# Altium schematic symbol library ToradexMainBoard-V0I1.SCHLIB: 303 symbols (part 3 of 14)
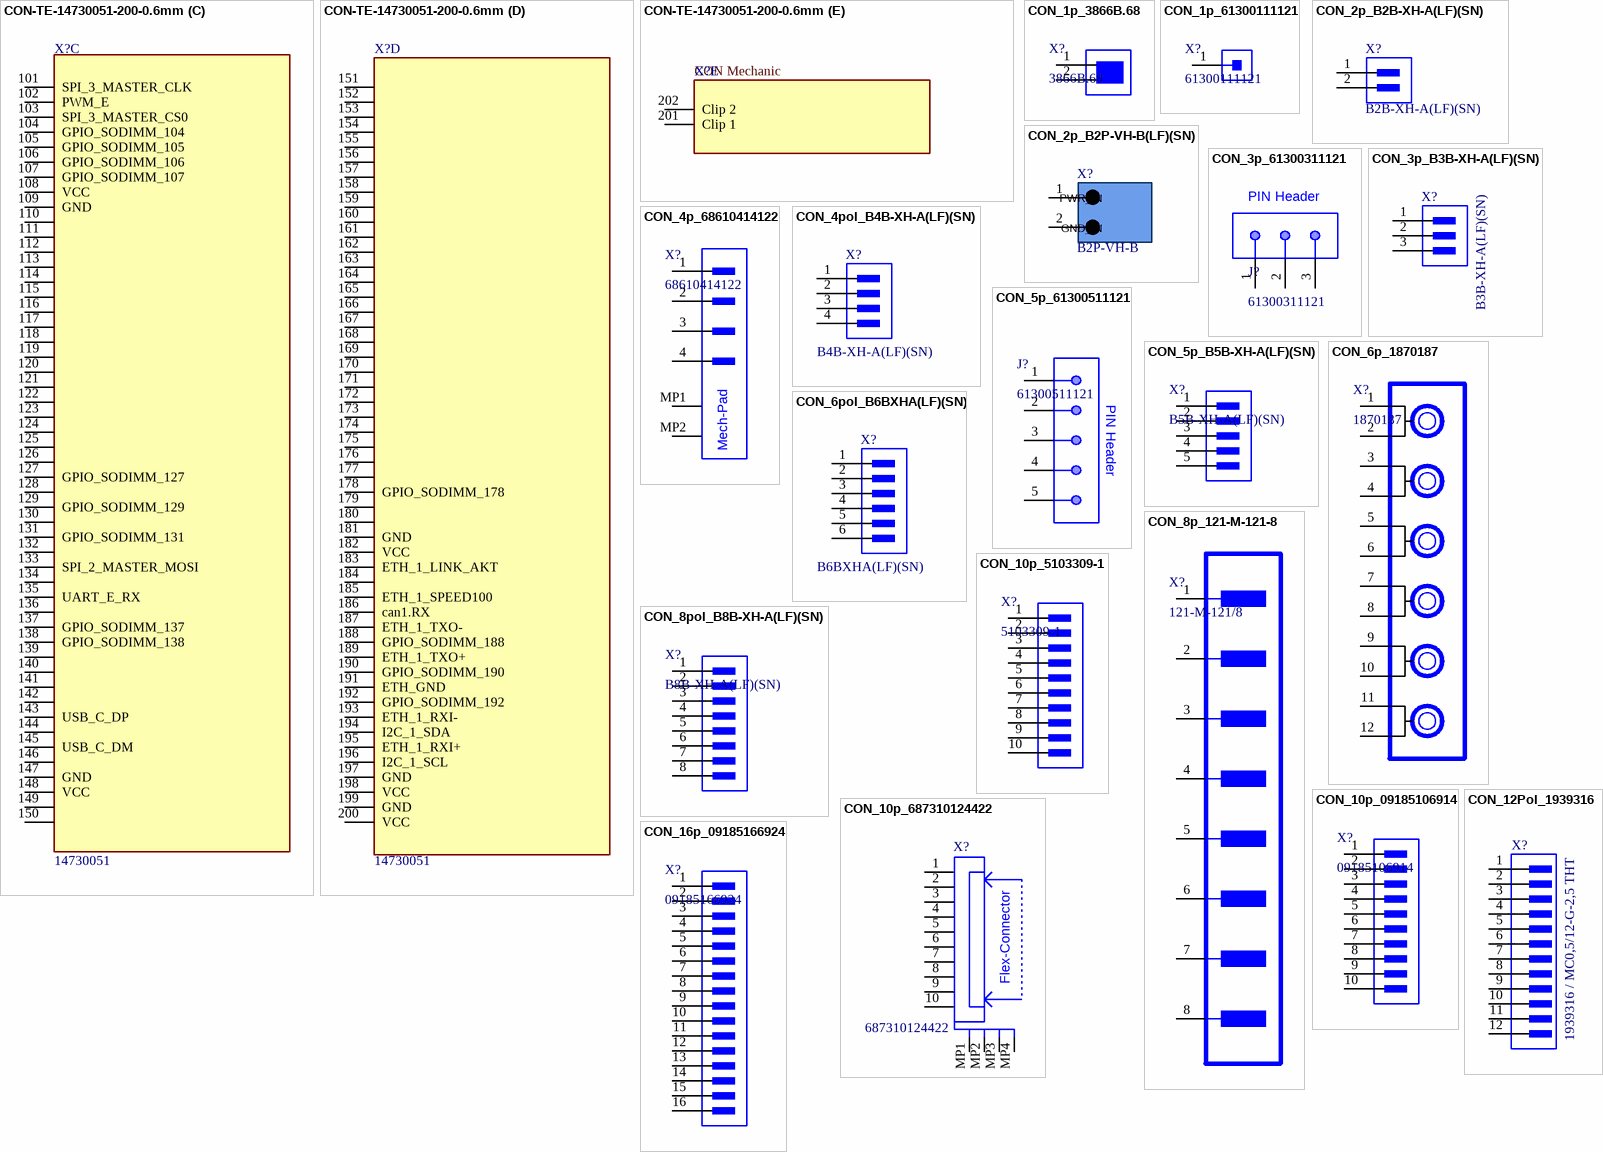
[diagram p17: symbols CON-TE-14730051-200-0.6mm to CON_16p_09185166924]

## CON_5p_B5B-XH-A(LF)(SN)
designator X?, comment B5B-XH-A(LF)(SN)
Conn Shrouded Header HDR 5 POS 2.5mm Solder ST Thru-Hole Box; Manufacturer: JST; Contact Resistance: 20mR; Current Rating: 3A; Number of Positions: 5; Max Voltage Rating (AC): 250V; Connector Type: Male Pin; Insulation Resistance: 1GR; Gender: Male; Wire/Cable Gauge: 22AWG; Supplier 1: Farnell; Manufacturer Part Number: B5B-XH-A(LF)(SN); RoHS: Yes; Category: Headers and Wire Housings; Stock 1: 68330; Pricing 1: 100=0,14500, 500=0,12300, 1000=0,10000, 2500=0,09460, 5000=0,08910, 10000=0,08060 (EUR); Mount: Through Hole; Contact Material: Brass; Color: Natural; Contact Plating: Tin,Lead,Copper; Housing Color: White; Housing Material: Polyamide; Min Operating Temperature: -25°C; Max Operating Temperature: 85°C; Number of Rows: 1; Packaging: Bulk; Max Current Rating: 3A; Termination: Press-Fit; Fastening Type: Detent; Orientation: Straight; Voltage Rating (AC): 250V; Voltage Rating: 250V; Number of Contacts: 5; Length: 14.9mm; Pitch: 2.5mm; Depth: 5.75mm; Lead Pitch: 2.5mm; Lead Free: Lead Free; REACH SVHC: No SVHC; ComponentLink1URL: https://datasheet.ciiva.com/11746/0900766b8082f55f-11746654.pdf?src-supplier=RSComponents; ComponentLink1Description: https://datasheet.ciiva.com/11746/0900766b8082f55f-11746654.pdf?src-supplier=RSComponents; ComponentLink2URL: https://datasheet.ciiva.com/26894/getdatasheetpartid-455618-26894798.pdf?src-supplier=Verical; ComponentLink2Description: https://datasheet.ciiva.com/26894/getdatasheetpartid-455618-26894798.pdf?src-supplier=Verical; ComponentLink3URL: https://datasheet.ciiva.com/26894/getdatasheetpartid-640991-26894479.pdf?src-supplier=Verical; ComponentLink3Description: https://datasheet.ciiva.com/26894/getdatasheetpartid-640991-26894479.pdf?src-supplier=Verical; ComponentLink4URL: https://datasheet.ciiva.com/724/exh-724390.pdf?src-supplier=Digi-Key; ComponentLink4Description: https://datasheet.ciiva.com/724/exh-724390.pdf?src-supplier=Digi-Key; ComponentLink5URL: https://datasheet.ciiva.com/20207/523653-20207174.pdf?src-supplier=Rapid+Electronics; ComponentLink5Description: https://datasheet.ciiva.com/20207/523653-20207174.pdf?src-supplier=Rapid+Electronics; ComponentLink6URL: https://datasheet.ciiva.com/8052/1684882-8052063.pdf?src-supplier=Element14; ComponentLink6Description: https://datasheet.ciiva.com/8052/1684882-8052063.pdf?src-supplier=Element14; Supplier Part Number 1: 1516281
footprint CON_ B5B-XH-A (LF)(SN)
pins: 1, 2, 3, 4, 5

## CON_6p_1870187
designator X?, comment 1870187
PCB Terminal Push-In 3.81mm 16AWG 160V 12A 6 Position Combicon Control Series; Manufacturer: Phoenix Contact; Number of Levels: 1; Number of Positions Per Level: 6; Current: 6A; Voltage: 300V; Wire Gauge (Max): 26AWG; Pitch: 0.15inch; Supplier 1: Mouser; Manufacturer Part Number: 1870187; RoHS: Yes; Category: Terminal Blocks; Stock 1: 30; Pricing 1: 1=7,85000, 10=7,64000, 50=7,14000, 100=6,56000, 1000=5,42000, 10000=5,42000, 1=6,65000, 10=6,47000, 25=6,31000, 50=6,05000, 100=5,56000, 250=5,13000, 500=4,90000, 1000=4,59000, 2500=4,35000 (USD); Mount: Through Hole; Weight: 5lb; Housing Color: Green; Package Quantity: 50; Termination: Screwless; Series: COMBICON FFKDSA; Packaging: Bulk; Current Rating: 12A; Voltage Rating: 160V; Number of Positions: 6; Wire Gauge (Min): 16AWG; RoHS Compliant: Yes; ComponentLink1URL: http://components.arrow.com/part/dataview/44192676S76631N1555?src-supplier=Arrow+Electronics; ComponentLink1Description: http://components.arrow.com/part/dataview/44192676S76631N1555?src-supplier=Arrow+Electronics; ComponentLink2URL: https://media.digikey.com/pdf/Data%20Sheets/Phoenix%20Contact%20PDFs/1870187.pdf?src-supplier=Digi-Key; ComponentLink2Description: https://media.digikey.com/pdf/Data%20Sheets/Phoenix%20Contact%20PDFs/1870187.pdf?src-supplier=Digi-Key; ComponentLink3URL: http://www.phoenixcontact.com/us/products/1870187/pdf?src-supplier=Mouser; ComponentLink3Description: http://www.phoenixcontact.com/us/products/1870187/pdf?src-supplier=Mouser; Supplier Part Number 1: 651-1870187
footprint CON_6p_1870187
pins: 1, 2, 3, 4, 5, 6, 7, 8, 9, 10, 11, 12

## CON_6pol_B6BXHA(LF)(SN)
designator X?, comment B6BXHA(LF)(SN)
CONN HEADER VERT 6POS 2.5MM; Manufacturer: JST; Current Rating: 3A; Number of Positions: 6; Contact Resistance: 20mR; Max Voltage Rating (AC): 250V; Connector Type: Male Pin; Insulation Resistance: 1GR; Wire/Cable Gauge: 22AWG; Supplier 1: Digi-Key; Manufacturer Part Number: B6BXHA(LF)(SN); RoHS: Yes; Category: FFC / FPC; Mount: Through Hole; Contact Plating: Tin,Lead,Copper; Contact Material: Brass; Color: Natural; Housing Color: White; Housing Material: Polyamide; Min Operating Temperature: -25°C; Max Operating Temperature: 85°C; Termination: Press-Fit; Number of Rows: 1; Max Current Rating: 3A; Packaging: Bulk; Orientation: Straight; Voltage Rating (AC): 250V; Voltage Rating: 250V; Number of Contacts: 6; Max Voltage Rating (DC): 250V; Package Quantity: 500; Length: 17.4mm; Pitch: 2.5mm; Depth: 5.75mm; Lead Pitch: 2.5mm; Lead Free: Lead Free; REACH SVHC: No SVHC; ComponentLink1URL: https://datasheet.ciiva.com/26894/getdatasheetpartid-424647-26894806.pdf?src-supplier=Verical; ComponentLink1Description: https://datasheet.ciiva.com/26894/getdatasheetpartid-424647-26894806.pdf?src-supplier=Verical; ComponentLink2URL: https://datasheet.ciiva.com/26894/getdatasheetpartid-641012-26894489.pdf?src-supplier=Verical; ComponentLink2Description: https://datasheet.ciiva.com/26894/getdatasheetpartid-641012-26894489.pdf?src-supplier=Verical; ComponentLink3URL: https://datasheet.ciiva.com/20207/523653-20207177.pdf?src-supplier=Rapid+Electronics; ComponentLink3Description: https://datasheet.ciiva.com/20207/523653-20207177.pdf?src-supplier=Rapid+Electronics; ComponentLink4URL: https://datasheet.ciiva.com/16397/b6b-xh-alfsn-16397116.pdf?src-supplier=Future+Electronics; ComponentLink4Description: https://datasheet.ciiva.com/16397/b6b-xh-alfsn-16397116.pdf?src-supplier=Future+Electronics; ComponentLink5URL: https://datasheet.ciiva.com/712/exh-712511.pdf?src-supplier=Digi-Key; ComponentLink5Description: https://datasheet.ciiva.com/712/exh-712511.pdf?src-supplier=Digi-Key; Supplier Part Number 1: 455-2271-ND
footprint B6BXHA(LF)(SN) (B6BXHA(LF)(SN) 6pol 2.5mm)
pins: 1, 2, 3, 4, 5, 6

## CON_8p_121-M-121-8
designator X?, comment 121-M-121/8
WECO Connector 5.08mm Raster.
footprint CON_8P_121-M-121-8
pins: 1, 2, 3, 4, 5, 6, 7, 8

## CON_8pol_B8B-XH-A(LF)(SN)
designator X?, comment B8B-XH-A(LF)(SN)
HEADER, VERTICAL, 8WAY; Product Range:XH Series; Contact Termination Type:Through Hole; Gender:Header; No. of Contacts:8; Pitch Spacing:2.5mm; Contact Plating:Tin; Contact Material:Brass; No. of Rows:1; Contact Resistance:10mohm; ;RoHS Compliant: Yes; Manufacturer: JST; Number of Positions: 8; Connector Type: Male Pin; Current Rating: 3A; Max Voltage Rating (AC): 250V; Insulation Resistance: 1GR; Contact Resistance: 20mR; Pitch: 2.5mm; Wire/Cable Gauge: 22AWG; Supplier 1: Farnell; Manufacturer Part Number: B8B-XH-A(LF)(SN); RoHS: Yes; Category: FFC / FPC; Stock 1: 21251; Pricing 1: 10=0,29700, 100=0,20700, 500=0,17700, 1000=0,14800, 2500=0,13800, 5000=0,12800 (EUR); Mount: Through Hole; Color: Natural; Contact Plating: Tin,Copper,Lead; Contact Material: Brass; Housing Color: White; Housing Material: Polyamide; Min Operating Temperature: -25°C; Max Operating Temperature: 85°C; Packaging: Bulk; Termination: Press-Fit; Number of Rows: 1; Fastening Type: Detent; Orientation: Straight; Number of Contacts: 8; Max Current Rating: 3A; Voltage Rating (AC): 250V; Voltage Rating: 250V; Length: 22.4mm; Depth: 5.75mm; Lead Pitch: 2.5mm; Lead Free: Lead Free; REACH SVHC: No SVHC; ComponentLink1URL: https://datasheet.ciiva.com/26894/getdatasheetpartid-440408-26894817.pdf?src-supplier=Verical; ComponentLink1Description: https://datasheet.ciiva.com/26894/getdatasheetpartid-440408-26894817.pdf?src-supplier=Verical; ComponentLink2URL: https://datasheet.ciiva.com/11747/0900766b80826540-11747580.pdf?src-supplier=RSComponents; ComponentLink2Description: https://datasheet.ciiva.com/11747/0900766b80826540-11747580.pdf?src-supplier=RSComponents; Supplier Part Number 1: 1516284
footprint CON_8P_B8B-XH-A(LF)(SN)
pins: 1, 2, 3, 4, 5, 6, 7, 8

## CON_10p_5103309-1
designator X?, comment 5103309-1
WIRE-BOARD CONNECTOR, HEADER, 10 POSITION, 2.54MM; Product Range:TE - AMP-LATCH Series; Contact Termination Type:Through Hole; Gender:Header; No. of Contacts:10; No. of Rows:2; Pitch Spacing:2.54mm; Contact Plating:Gold; Width:0.800; Manufacturer: TE Connectivity; Body Material: Thermoplastic; Current Rating: 1A; Number of Positions: 10; Connector Type: Plug,Header,Pin; PCB Mount Retention: Without; PCB Mounting Orientation: Vertical; Insulation Resistance: 5GR; Mating Alignment: Yes (With); Mating Retention: No (Without); Connector System: Wire-to-Board; Gender: Male; Contact Post Length: 0.12inch; Supplier 1: Farnell; Manufacturer Part Number: 5103309-1; RoHS: Yes; Category: Connectors; Stock 1: 5008; Pricing 1: 1=0,92500, 50=0,86400, 100=0,80300, 250=0,76300, 500=0,72300, 1000=0,64300 (EUR); Mount: Through Hole; Contact Plating: Gold,Tin; Contact Material: Copper Alloy; Color: Black; Housing Color: Black; Housing Material: PBT; Contact Shape: Square; Min Operating Temperature: -65°C; Max Operating Temperature: 105°C; Number of Rows: 2; Packaging: Rail/Tube; Contact Gender: Male; Package Quantity: 35; Termination: Through Hole; Number of Contacts: 10; Orientation: Straight; Contact Current Rating: 1A; PCB Mount Alignment: No (Without); Board Standoff: Yes (With); Mating Connector Lock: No (Without); Shrouded: Yes (With); Length: 0.8inch; Height: 8.813mm; Pitch: 2.54mm; Row Spacing: 2.54mm; Depth: 9.14mm; Contact Mating Length: 0.24inch; Shrouded End Dimension: 3.81mm; Flammability Rating: UL94 V-0; REACH SVHC: No SVHC; ELV: Compliant; Lead Free: Lead Free; ComponentLink1URL: https://datasheet.ciiva.com/11749/0900766b80d9ca17-11749126.pdf?src-supplier=RSComponents; ComponentLink1Description: https://datasheet.ciiva.com/11749/0900766b80d9ca17-11749126.pdf?src-supplier=RSComponents; ComponentLink2URL: https://datasheet.ciiva.com/19461/753563-19461959.pdf?src-supplier=Jameco; ComponentLink2Description: https://datasheet.ciiva.com/19461/753563-19461959.pdf?src-supplier=Jameco; ComponentLink3URL: https://datasheet.ciiva.com/16683/eng-ds-1307819-ampmodu-0811-16683821.pdf?src-supplier=Avnet+Europe; ComponentLink3Description: https://datasheet.ciiva.com/16683/eng-ds-1307819-ampmodu-0811-16683821.pdf?src-supplier=Avnet+Europe; ComponentLink4URL: https://datasheet.ciiva.com/7788/eng-cs-1307819-section-5-0908-7788726.pdf?src-supplier=Element14; ComponentLink4Description: https://datasheet.ciiva.com/7788/eng-cs-1307819-section-5-0908-7788726.pdf?src-supplier=Element14; ComponentLink5URL: https://datasheet.ciiva.com/14638/70042629-14638134.pdf?src-supplier=Allied+Electronics; ComponentLink5Description: https://datasheet.ciiva.com/14638/70042629-14638134.pdf?src-supplier=Allied+Electronics; ComponentLink6URL: https://datasheet.ciiva.com/16496/eng-ds-1307819-ampmodu-0811-16496934.pdf?src-supplier=Avnet+Asia; ComponentLink6Description: https://datasheet.ciiva.com/16496/eng-ds-1307819-ampmodu-0811-16496934.pdf?src-supplier=Avnet+Asia; ComponentLink7URL: https://datasheet.ciiva.com/46390/1794057-46390646.pdf?src-supplier=Element14; ComponentLink7Description: https://datasheet.ciiva.com/46390/1794057-46390646.pdf?src-supplier=Element14; ComponentLink8URL: https://datasheet.ciiva.com/709/eng-cd-5103309-e1-709996.pdf?src-supplier=Digi-Key; ComponentLink8Description: https://datasheet.ciiva.com/709/eng-cd-5103309-e1-709996.pdf?src-supplier=Digi-Key; Supplier Part Number 1: 2396199
footprint CON_TECO-5103309-1_V (Male Header, 10-Leads, Body 20.32x9.144mm, Pitch 2.54mm)
pins: 1, 2, 3, 4, 5, 6, 7, 8, 9, 10

## CON_10p_09185106914
designator X?, comment 09185106914
Wire-To-Board Connector, Shrouded, 2.54 mm, 10 Contacts, Header, SEK 18 Series, Through Hole; Manufacturer: HARTING Technology; Number of Positions: 10; Connector Type: Male Pin,Connector; Current Rating: 2A; Max Current Rating: 1A; Contact Resistance: 20mR; Pitch: 2.54mm; Row Spacing: 0.1inch; Pin Length: 29mm; Supplier 1: Farnell; Manufacturer Part Number: 09185106914; RoHS: Yes; Category: Connectors; Stock 1: 916; Pricing 1: 1=1,64000, 10=1,34000, 50=1,25000, 100=1,16000, 250=1,15000, 500=1,06000 (EUR); Mount: Through Hole; Color: Grey; Contact Plating: Gold; Contact Material: Copper Alloy; Housing Material: Polybutylene; Min Operating Temperature: -55°C; Max Operating Temperature: 125°C; Package Quantity: 1; Number of Rows: 2; Fastening Type: Latch; Packaging: Bulk; Termination: Solder; Contact Gender: Male; Number of Contacts: 10; Orientation: Straight; Length: 32.3mm; Contact Mating Length: 0.24inch; Depth: 8.5mm; REACH SVHC: No SVHC; ComponentLink1URL: https://datasheet.ciiva.com/29372/800840-da-01-en-messerleiste-09-18-510-6914-29372156.pdf?src-supplier=Conrad; ComponentLink1Description: https://datasheet.ciiva.com/29372/800840-da-01-en-messerleiste-09-18-510-6914-29372156.pdf?src-supplier=Conrad; Supplier Part Number 1: 2581311
footprint CON_Harting_09185106914 (Male Header, 10-Leads, Body 20.32x9.144mm, Pitch 2.54mm)
pins: 1, 2, 3, 4, 5, 6, 7, 8, 9, 10

## CON_10p_687310124422
designator X?, comment 687310124422
CONN FPC VERT 10POS 0.50MM SMD; Manufacturer: Wurth Electronics; Actuator Material: Polymer,Liquid Crystal Polymer; Current Rating: 500mA; Voltage Rating: 50V; Contact Location: Side; Number of Positions: 10; Insulation Resistance: 100MR; Gender: Receptacle; Pitch: 0.5mm; Supplier 1: Farnell; Manufacturer Part Number: 687310124422; RoHS: Yes; Category: FFC / FPC; Stock 1: 1315; Pricing 1: 1=1,37000, 25=1,28000, 75=1,10000, 200=1,08000, 500=1,05000 (EUR); Mount: Surface Mount; Contact Plating: Tin; Contact Material: Bronze,Tin; Housing Material: Liquid Crystal Polymer; Min Operating Temperature: -25°C; Max Operating Temperature: 85°C; Number of Rows: 2; Packaging: Tape and Reel; Package Quantity: 1000; Termination: Solder; Number of Contacts: 10; Orientation: Straight; Length: 11.4mm; Width: 3.5mm; REACH SVHC: Unknown; Lead Free: Lead Free; Flammability Rating: UL94 V-0; ComponentLink1URL: https://datasheet.ciiva.com/25617/0900766b81113c2b-25617817.pdf?src-supplier=RSComponents; ComponentLink1Description: https://datasheet.ciiva.com/25617/0900766b81113c2b-25617817.pdf?src-supplier=RSComponents; ComponentLink2URL: https://datasheet.ciiva.com/670/6873xx124422-670421.pdf?src-supplier=Digi-Key; ComponentLink2Description: https://datasheet.ciiva.com/670/6873xx124422-670421.pdf?src-supplier=Digi-Key; ComponentLink3URL: https://datasheet.ciiva.com/670/6873xx124422-670422.pdf?src-supplier=Digi-Key; ComponentLink3Description: https://datasheet.ciiva.com/670/6873xx124422-670422.pdf?src-supplier=Digi-Key; ComponentLink4URL: https://datasheet.ciiva.com/8067/1388844-8067302.pdf?src-supplier=Element14; ComponentLink4Description: https://datasheet.ciiva.com/8067/1388844-8067302.pdf?src-supplier=Element14; ComponentLink5URL: https://datasheet.ciiva.com/670/6873xx124422-670423.pdf?src-supplier=Digi-Key; ComponentLink5Description: https://datasheet.ciiva.com/670/6873xx124422-670423.pdf?src-supplier=Digi-Key; ComponentLink6URL: https://datasheet.ciiva.com/29317/709154-da-01-en-smd-zif-stecker-180grad-typ-a-10-pol-29317899.pdf?src-supplier=Conrad; ComponentLink6Description: https://datasheet.ciiva.com/29317/709154-da-01-en-smd-zif-stecker-180grad-typ-a-10-pol-29317899.pdf?src-supplier=Conrad; Supplier Part Number 1: 1908458
footprint CON_687310124422_10p (ZIF Connectors, Vertical, Type A, pitch 0.5mm, 10p)
pins: 1, 2, 3, 4, 5, 6, 7, 8, 9, 10, MP1, MP2, MP3, MP4
text: Flex-Connector

## CON_12Pol_1939316
designator X?, comment 1939316 / MC0,5/12-G-2,5 THT
Pluggable Terminal Blocks 12 Pos 2.5mm pitch Through Hole Header; Manufacturer: Phoenix Contact; Voltage Rating: 32V; Current Rating: 4A; Number of Positions: 12; Number of Levels: 1; Voltage: 125V; Supplier 1: Mouser; Manufacturer Part Number: 1939316; RoHS: Yes; Category: Terminal Blocks; Stock 1: 54; Pricing 1: 1=5,16000, 10=5,02000, 25=4,90000, 50=4,69000, 100=4,32000, 250=3,99000 (USD); Mount: Through Hole; Weight: 2.716095oz; Contact Plating: Tin; Housing Color: Black; Color: Black; Termination: Solder; Packaging: Bulk; Number of Positions Per Level: 12; Number of Contacts: 12; Current: 4A; Package Quantity: 50; Pitch: 2.5mm; Flammability Rating: UL94 V-0; ComponentLink1URL: https://datasheet.ciiva.com/29689/microcombiconheaders-29689372.pdf?src-supplier=Digi-Key; ComponentLink1Description: https://datasheet.ciiva.com/29689/microcombiconheaders-29689372.pdf?src-supplier=Digi-Key; Supplier Part Number 1: 651-1939316
footprint CON_Phoenix_1939316 (MC0.5/12-G-2.5 THT 12pol 2.5mm)
pins: 1, 2, 3, 4, 5, 6, 7, 8, 9, 10, 11, 12

## CON_16p_09185166924
designator X?, comment 09185166924
CONN HEADER 16POS T/H; Manufacturer: HARTING Technology; Current Rating: 2A; Number of Positions: 16; Connector Type: Pin,Male Pin; Pitch: 2.54mm; Row Spacing: 0.1inch; Supplier 1: Mouser; Manufacturer Part Number: 09185166924; RoHS: Yes; Category: Board to Board Connectors; Stock 1: 51; Mount: Through Hole; Contact Material: Gold; Color: Grey; Housing Material: Polyester; Contact Gender: Male; Package Quantity: 100; Number of Rows: 2; Packaging: Bulk; Termination: Solder; Number of Contacts: 16; Orientation: Straight; Contact Type: Male Pin; Series: SEK; Contact Mating Length: 0.228inch; RoHS Compliant: Yes; ComponentLink1URL: https://datasheet.ciiva.com/11747/0900766b80ddbda2-11747730.pdf?src-supplier=RSComponents; ComponentLink1Description: https://datasheet.ciiva.com/11747/0900766b80ddbda2-11747730.pdf?src-supplier=RSComponents; ComponentLink2URL: https://datasheet.ciiva.com/14157/0918516x92x-eng-tds-14157015.pdf?src-supplier=Distrelec; ComponentLink2Description: https://datasheet.ciiva.com/14157/0918516x92x-eng-tds-14157015.pdf?src-supplier=Distrelec; ComponentLink3URL: https://datasheet.ciiva.com/29143/09185xxx92x-100553196drw001a-29143229.pdf?src-supplier=Digi-Key; ComponentLink3Description: https://datasheet.ciiva.com/29143/09185xxx92x-100553196drw001a-29143229.pdf?src-supplier=Digi-Key; Supplier Part Number 1: 617-09185166924
footprint CON_Harting_09185166924_16p (Male Header, 10-Leads, Body 20.32x9.144mm, Pitch 2.54mm)
pins: 1, 2, 3, 4, 5, 6, 7, 8, 9, 10, 11, 12, 13, 14, 15, 16

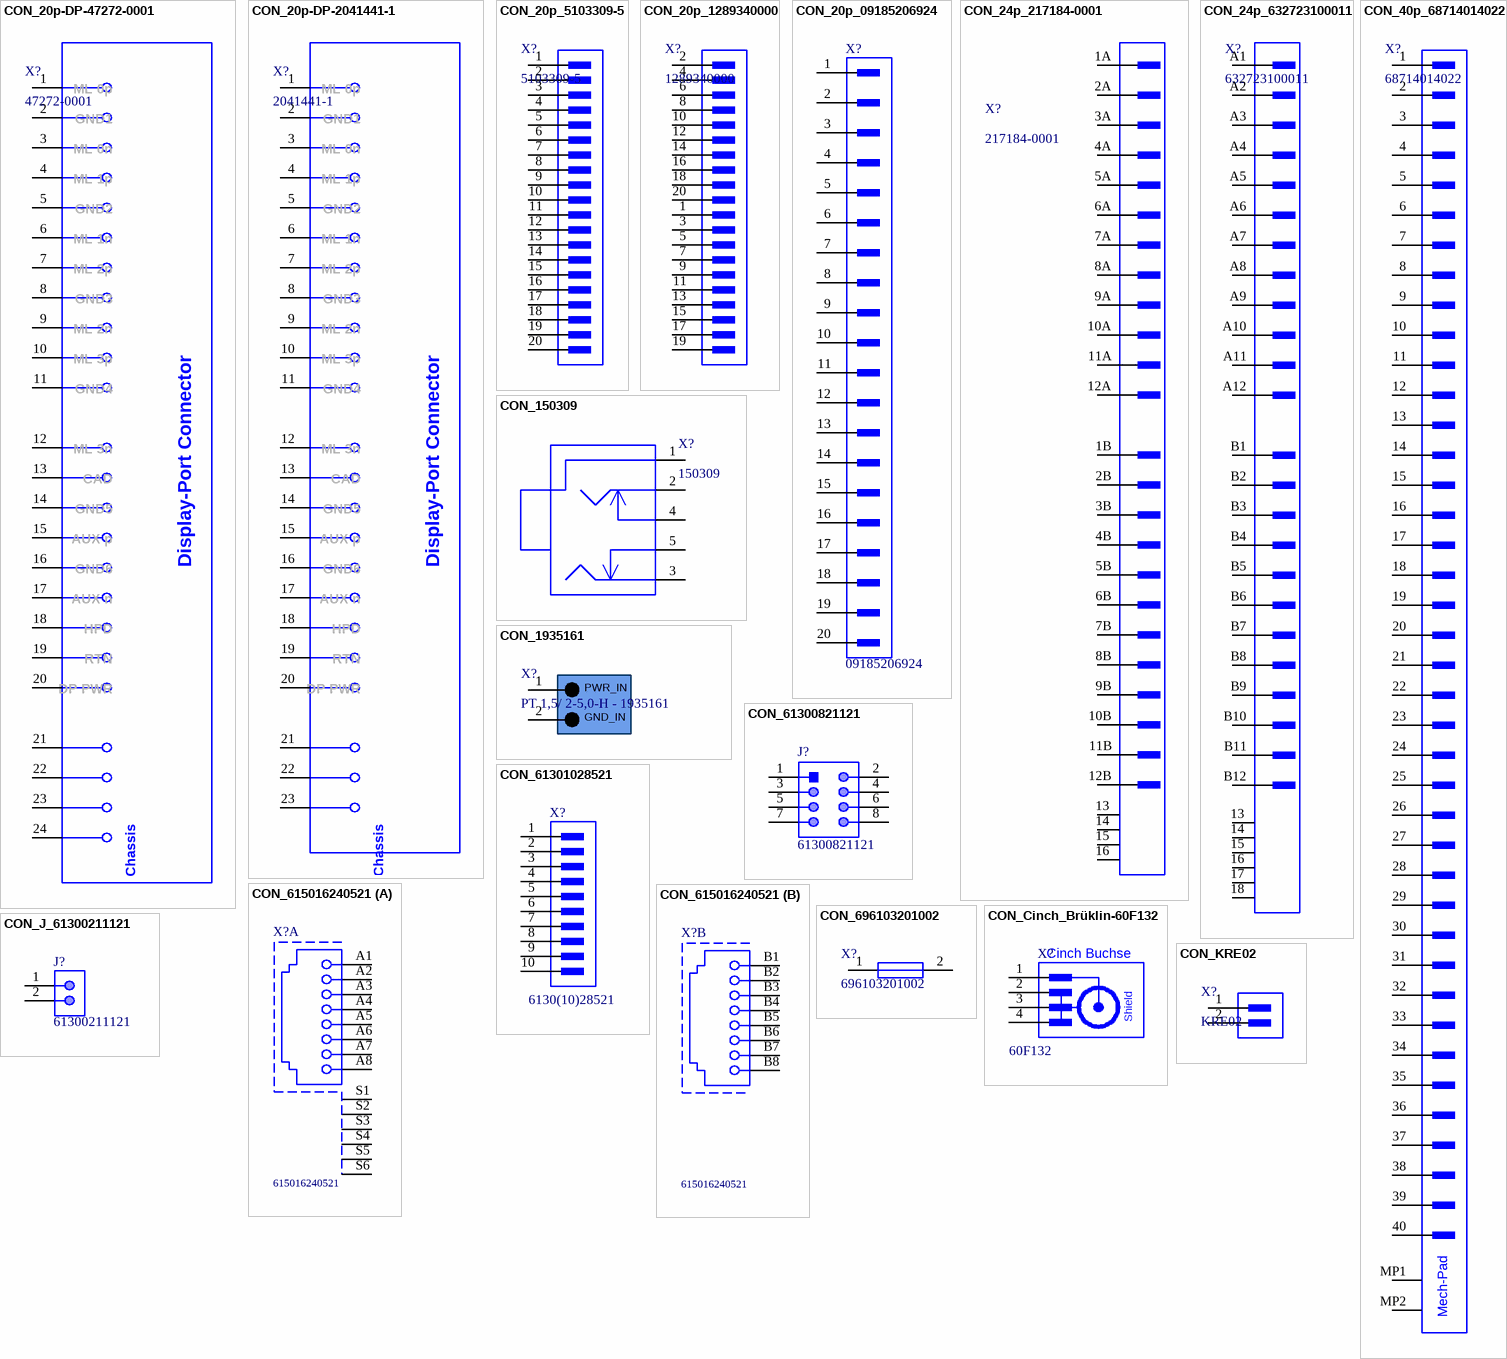
[diagram p3: symbols CON_20p-DP-47272-0001 to CON_KRE02]

## CON_20p-DP-47272-0001
designator X?, comment 47272-0001
HDMI, Displayport & DVI Connectors .5MM RA SMT RCPT; Manufacturer: Molex; Body Material: Metal,Stainless Steel; Number of Terminals/Pins: 20; Mating Cycles: 10000; Gender: Receptacle; Current Rating: 500mA; Number of Ports: 1; Contact Resistance: 30mR; Voltage Rating (AC): 40V; Insulation Resistance: 10MR; Pitch: 0.5mm; Supplier 1: Farnell; Manufacturer Part Number: 47272-0001; RoHS: Yes; Category: Audio / Video Connectors; Stock 1: 9007; Pricing 1: 1=4,86000, 10=4,28000, 50=3,85000, 100=3,41000, 500=3,31000, 1000=2,82000 (EUR); Mount: Surface Mount; Contact Plating: Gold; Contact Material: Copper Alloy; Color: Black; Housing Material: Thermoplastic; Weight: 0.09591oz; Min Operating Temperature: -20°C; Max Operating Temperature: 85°C; Packaging: Tape and Reel; Package Quantity: 250; Termination: Solder; Number of Contacts: 20; Orientation: Right Angle; Number of Rows: 2; Max Voltage Rating (AC): 40V; Number of Positions: 20; Voltage Rating: 40V; Max Current Rating: 500mA; Number of Circuits: 20; Length: 17.79mm; Lead Pitch: 0.5mm; Depth: 14.39mm; Radiation Hardening: No; Flammability Rating: UL94 V-0; REACH SVHC: Unknown; Halogen Free: Low Halogen; ComponentLink1URL: https://datasheet.ciiva.com/1094/1842981-1094832.pdf?src-supplier=Element14; ComponentLink1Description: https://datasheet.ciiva.com/1094/1842981-1094832.pdf?src-supplier=Element14; ComponentLink2URL: https://datasheet.ciiva.com/1095/1626418-1095413.pdf?src-supplier=Newark; ComponentLink2Description: https://datasheet.ciiva.com/1095/1626418-1095413.pdf?src-supplier=Newark; ComponentLink3URL: https://datasheet.ciiva.com/16667/0472720001-io-connectors-16667945.pdf?src-supplier=Avnet+Europe; ComponentLink3Description: https://datasheet.ciiva.com/16667/0472720001-io-connectors-16667945.pdf?src-supplier=Avnet+Europe; ComponentLink4URL: https://datasheet.ciiva.com/16143/446640472720001-io-nectors-16143178.pdf?src-supplier=Onlinecomponents.com; ComponentLink4Description: https://datasheet.ciiva.com/16143/446640472720001-io-nectors-16143178.pdf?src-supplier=Onlinecomponents.com; ComponentLink5URL: https://datasheet.ciiva.com/30129/59900472720001-io-nectors-30129484.pdf?src-supplier=Onlinecomponents.com; ComponentLink5Description: https://datasheet.ciiva.com/30129/59900472720001-io-nectors-30129484.pdf?src-supplier=Onlinecomponents.com; ComponentLink6URL: https://datasheet.ciiva.com/1097/1712025-1097373.pdf?src-supplier=Farnell; ComponentLink6Description: https://datasheet.ciiva.com/1097/1712025-1097373.pdf?src-supplier=Farnell; ComponentLink7URL: https://datasheet.ciiva.com/18449/70191225-18449467.pdf?src-supplier=Allied+Electronics; ComponentLink7Description: https://datasheet.ciiva.com/18449/70191225-18449467.pdf?src-supplier=Allied+Electronics; ComponentLink8URL: https://datasheet.ciiva.com/3205/0472720001-io-connectors-3205598.pdf?src-supplier=Avnet; ComponentLink8Description: https://datasheet.ciiva.com/3205/0472720001-io-connectors-3205598.pdf?src-supplier=Avnet; Supplier Part Number 1: 2396153
footprint CON_20p-DP-47272-0001-MFG (DisplayPort)
pins: 1 ML 0p, 2 GND1 (power), 3 ML 0n, 4 ML 1p, 5 GND2 (power), 6 ML 1n, 7 ML 2p, 8 GND3 (power), 9 ML 2n, 10 ML 3p, 11 GND4 (power), 12 ML 3n, 13 CAD, 14 GND5 (power), 15 AUX p, 16 GND6 (power), 17 AUX n, 18 HPD, 19 RTN, 20 DP PWR, 21 GND7 (power), 22 GND8 (power), 23 GND9 (power), 24 GND10 (power)
text: Display-Port Connector; Chassis

## CON_20p-DP-2041441-1
designator X?, comment 2041441-1
CONN RCPT DISPLAYPORT 20POS VERT; Manufacturer: TE Connectivity; Plating: Nickel; Connector Type: Receptacle,Connector; Number of Contacts: 19; Gender: Receptacle; Contact Current Rating: 500mA; Circuit Application: Signal; Connector System: Cable-to-Board; Number of Positions: 20; Pitch: 0.05inch; Tail Length: 2.1mm; Supplier 1: Farnell; Manufacturer Part Number: 2041441-1; RoHS: Yes; Category: Audio / Video Connectors; Stock 1: 6740; Pricing 1: 1=2,96000, 10=2,48000, 100=2,36000, 250=2,07000, 500=2,01000, 1000=1,72000 (EUR); Mount: Through Hole; Contact Plating: Gold; Contact Material: Brass; Housing Material: Polymer; Housing Color: Black; Shell Material: Bronze; Min Operating Temperature: -40°C; Max Operating Temperature: 85°C; Package Quantity: 100; Packaging: Tray; Termination: Solder; Orientation: Vertical; Length: 17.8mm; RoHS Compliant: Yes; Flammability Rating: UL94 V-0; ComponentLink1URL: https://datasheet.ciiva.com/29660/eng-cd-2041441-d1-29660039.pdf?src-supplier=Digi-Key; ComponentLink1Description: https://datasheet.ciiva.com/29660/eng-cd-2041441-d1-29660039.pdf?src-supplier=Digi-Key; Supplier Part Number 1: 3399419
footprint CON_20p-2041441-1 (DisplayPort)
pins: 1 ML 0p, 2 GND1 (power), 3 ML 0n, 4 ML 1p, 5 GND2 (power), 6 ML 1n, 7 ML 2p, 8 GND3 (power), 9 ML 2n, 10 ML 3p, 11 GND4 (power), 12 ML 3n, 13 CAD, 14 GND5 (power), 15 AUX p, 16 GND6 (power), 17 AUX n, 18 HPD, 19 RTN, 20 DP PWR, 21 GND7 (power), 22 GND8 (power), 23 GND9 (power)
text: Display-Port Connector; Chassis

## CON_20p_5103309-5
designator X?, comment 5103309-5
CONN HEADER LOPRO STR 20POS GOLD; Manufacturer: TE Connectivity; Number of Contacts: 20; Connector Type: Plug,Header,Pin; Insulation Resistance: 5GR; Current Rating: 1A; Mating Alignment: Yes (With); Mating Retention: No (Without); PCB Mount Retention: Without; PCB Mounting Orientation: Vertical; Connector System: Wire-to-Board; Gender: Male; Max Voltage Rating (AC): 250V; Pitch: 2.54mm; Contact Post Length: 0.12inch; Supplier 1: Farnell; Manufacturer Part Number: 5103309-5; RoHS: Yes; Category: Connectors; Stock 1: 397; Pricing 1: 1=2,07000, 10=1,69000, 100=1,60000, 250=1,45000, 500=1,34000, 1000=1,14000 (EUR); Mount: Through Hole; Contact Plating: Gold,Tin; Housing Material: PBT; Housing Color: Black; Color: Black; Contact Material: Copper Alloy; Contact Shape: Square; Min Operating Temperature: -65°C; Max Operating Temperature: 105°C; Termination: Through Hole; Number of Rows: 2; Number of Positions: 20; Orientation: Straight; Package Quantity: 35; Packaging: Rail/Tube; Contact Current Rating: 1A; PCB Mount Alignment: No (Without); Contact Gender: Male; Board Standoff: Yes (With); Mating Connector Lock: No (Without); Shrouded: Yes (With); Voltage Rating: 250V; Length: 33.02mm; Height: 8.813mm; Row Spacing: 2.54mm; Depth: 9.14mm; Contact Mating Length: 0.24inch; Shrouded End Dimension: 3.81mm; Lead Pitch: 2.54mm; Flammability Rating: UL94 V-0; REACH SVHC: No SVHC; ELV: Compliant; Lead Free: Lead Free; ComponentLink1URL: https://datasheet.ciiva.com/19461/753598-19461962.pdf?src-supplier=Jameco; ComponentLink1Description: https://datasheet.ciiva.com/19461/753598-19461962.pdf?src-supplier=Jameco; ComponentLink2URL: https://datasheet.ciiva.com/16215/eng-cs-82012-ribbon-cable-interconnect-sol-1109-16215228.pdf?src-supplier=Future+Electronics; ComponentLink2Description: https://datasheet.ciiva.com/16215/eng-cs-82012-ribbon-cable-interconnect-sol-1109-16215228.pdf?src-supplier=Future+Electronics; ComponentLink3URL: https://datasheet.ciiva.com/710/eng-cd-5103309-e1-710322.pdf?src-supplier=Digi-Key; ComponentLink3Description: https://datasheet.ciiva.com/710/eng-cd-5103309-e1-710322.pdf?src-supplier=Digi-Key; ComponentLink4URL: https://datasheet.ciiva.com/14639/70042632-14639653.pdf?src-supplier=Allied+Electronics; ComponentLink4Description: https://datasheet.ciiva.com/14639/70042632-14639653.pdf?src-supplier=Allied+Electronics; ComponentLink5URL: https://datasheet.ciiva.com/16656/eng-ds-1307819-ampmodu-0811-16656453.pdf?src-supplier=Avnet+Europe; ComponentLink5Description: https://datasheet.ciiva.com/16656/eng-ds-1307819-ampmodu-0811-16656453.pdf?src-supplier=Avnet+Europe; ComponentLink6URL: https://datasheet.ciiva.com/30204/eng-ds-1307819-ampmodu-0811-30204757.pdf?src-supplier=Onlinecomponents.com; ComponentLink6Description: https://datasheet.ciiva.com/30204/eng-ds-1307819-ampmodu-0811-30204757.pdf?src-supplier=Onlinecomponents.com; ComponentLink7URL: https://datasheet.ciiva.com/7809/eng-cs-1307819-section-5-0908-7809000.pdf?src-supplier=Element14; ComponentLink7Description: https://datasheet.ciiva.com/7809/eng-cs-1307819-section-5-0908-7809000.pdf?src-supplier=Element14; ComponentLink8URL: https://datasheet.ciiva.com/16496/eng-ds-1307819-ampmodu-0811-16496943.pdf?src-supplier=Avnet+Asia; ComponentLink8Description: https://datasheet.ciiva.com/16496/eng-ds-1307819-ampmodu-0811-16496943.pdf?src-supplier=Avnet+Asia; Supplier Part Number 1: 1772811
footprint CON_20p_5103309-5
pins: 1, 2, 3, 4, 5, 6, 7, 8, 9, 10, 11, 12, 13, 14, 15, 16, 17, 18, 19, 20

## CON_20p_1289340000
designator X?, comment 1289340000
TERMINAL BLOCK, PCB, 20 POSITION; No. of Positions:20; Rated Voltage:200V; Rated Current:13.4A; Pitch Spacing:3.5mm; Block Orientation:Through Hole Right Angle; Gender:Header; Connector Mounting:PCB Mount; No. of Contacts:20 ;RoHS Compliant: Yes; Manufacturer: Weidmuller; Gender: Male; Number of Contacts: 20; Number of Positions Per Level: 10; Number of Levels: 2; Current: 10A; Voltage: 150V; Hole Diameter: 1.3mm; Pitch: 0.138inch; Supplier 1: Farnell; Manufacturer Part Number: 1289340000; RoHS: Yes; Category: Terminal Blocks; Stock 1: 107; Pricing 1: 1=5,69000, 10=4,99000, 25=4,38000, 50=4,05000, 100=3,86000, 150=3,69000 (EUR); Mount: Through Hole; Number of Pins: 20; Contact Material: Copper Alloy; Contact Plating: Tin; Color: Black; Number of Rows: 1; Number of Poles: 20; Package Quantity: 48; Packaging: Box; Termination: Solder; Current Rating: 10A; Voltage Rating: 150V; Flammability Rating: UL94 V-0; REACH SVHC: No SVHC; ComponentLink1URL: https://datasheet.ciiva.com/6747/b2cf-s2c-smt-6747420.pdf?src-supplier=Digi-Key; ComponentLink1Description: https://datasheet.ciiva.com/6747/b2cf-s2c-smt-6747420.pdf?src-supplier=Digi-Key; Supplier Part Number 1: 2892999
footprint CON_20p_Weidmüller
pins: 1, 2, 3, 4, 5, 6, 7, 8, 9, 10, 11, 12, 13, 14, 15, 16, 17, 18, 19, 20

## CON_20p_09185206924
designator X?, comment 09185206924
CONN HEADER 20POS T/H; Manufacturer: HARTING Technology; Current Rating: 2A; Connector Type: Male Pin; Gender: Male; Number of Positions: 20; Pitch: 2.54mm; Row Spacing: 0.1inch; Supplier 1: Digi-Key; Manufacturer Part Number: 09185206924; RoHS: Yes; Category: Board to Board Connectors; Stock 1: 41; Pricing 1: 1=2,24000, 10=2,03400, 25=1,90920, 50=1,82600, 100=1,74300, 250=1,57700, 500=1,45250, 1000=1,24500 (USD); Mount: Through Hole; Contact Material: Copper Alloy,Gold; Color: Grey; Housing Material: Polyester; Contact Gender: Male; Package Quantity: 100; Number of Rows: 2; Packaging: Bulk; Orientation: Straight; Termination: Solder; Number of Contacts: 20; Contact Mating Length: 0.228inch; REACH SVHC: No SVHC; ComponentLink1URL: https://datasheet.ciiva.com/11753/0900766b80de2772-11753744.pdf?src-supplier=RSComponents; ComponentLink1Description: https://datasheet.ciiva.com/11753/0900766b80de2772-11753744.pdf?src-supplier=RSComponents; ComponentLink2URL: https://datasheet.ciiva.com/14157/0918520x92x-eng-tds-14157016.pdf?src-supplier=Distrelec; ComponentLink2Description: https://datasheet.ciiva.com/14157/0918520x92x-eng-tds-14157016.pdf?src-supplier=Distrelec; ComponentLink3URL: https://datasheet.ciiva.com/29132/09185xxx92x-100553196drw001a-29132438.pdf?src-supplier=Digi-Key; ComponentLink3Description: https://datasheet.ciiva.com/29132/09185xxx92x-100553196drw001a-29132438.pdf?src-supplier=Digi-Key; Supplier Part Number 1: 1195-4516-ND
footprint Harting_1939316 (MC0.5/12-G-2.5 THT 12pol 2.5mm)
pins: 1, 2, 3, 4, 5, 6, 7, 8, 9, 10, 11, 12, 13, 14, 15, 16, 17, 18, 19, 20

## CON_24p_217184-0001
designator X?, comment 217184-0001
Connector USB Type C Female 24Positions 0.5mm Right Angle SMT Embossed T/R; Manufacturer: Molex; Supplier 1: Mouser; Manufacturer Part Number: 217184-0001; Stock 1: 4990; Pricing 1: 1=1,05000, 10=0,87000, 50=0,87000, 100=0,73000, 1000=0,73000, 10000=0,48000, 1=0,88900, 10=0,73700, 100=0,61800, 1800=0,44900, 4500=0,42400, 9900=0,40700, 24300=0,38500 (USD); Supplier Part Number 1: 538-217184-0001
pins: 1A, 1B, 2A, 2B, 3A, 3B, 4A, 4B, 5A, 5B, 6A, 6B, 7A, 7B, 8A, 8B, 9A, 9B, 10A, 10B, 11A, 11B, 12A, 12B, 13, 14, 15, 16

## CON_24p_632723100011
designator X?, comment 632723100011
WURTH ELEKTRONIK - 632723100011 - USB CONNECTOR, 3.1 TYPE C, RCPT, 24POS; Manufacturer: Wurth Electronics; Number of Contacts: 24; Gender: Receptacle; Supplier 1: Farnell; Manufacturer Part Number: 632723100011; RoHS: Yes; Category: Connectors; Stock 1: 1513; Pricing 1: 1=3,33000, 17=2,80000, 52=2,59000, 140=2,54000, 350=2,49000 (EUR); Mount: Surface Mount,Through Hole; Packaging: Tape and Reel; Connector Type: USB; ComponentLink1URL: https://www.mouser.com/ds/2/445/632723x00011-782157.pdf?src-supplier=Mouser; ComponentLink1Description: https://www.mouser.com/ds/2/445/632723x00011-782157.pdf?src-supplier=Mouser; ComponentLink2URL: https://katalog.we-online.de/em/datasheet/632723x00011.pdf?src-supplier=Digi-Key; ComponentLink2Description: https://katalog.we-online.de/em/datasheet/632723x00011.pdf?src-supplier=Digi-Key; Supplier Part Number 1: 2984360
footprint CON_24p-632723100011 (USB 3.1 Type C Receptacle Horizontal THR)
pins: 13, 14, 15, 16, 17, 18, A1, A2, A3, A4, A5, A6, A7, A8, A9, A10, A11, A12, B1, B2, B3, B4, B5, B6, B7, B8, B9, B10, B11, B12

## CON_40p_68714014022
designator X?, comment 68714014022
SMT ZIF Connectors WR-FPC, Horizontal, Top Contact, pitch 0.5 mm, 40 pins; Manufacturer: Wurth Electronics; Actuator Material: Polymer,Liquid Crystal Polymer; Current Rating: 500mA; Voltage Rating: 50V; Number of Positions: 40; Insulation Resistance: 100MR; Gender: Receptacle; Pitch: 0.5mm; Supplier 1: Farnell; Manufacturer Part Number: 68714014022; RoHS: Yes; Category: FFC / FPC; Stock 1: 3; Pricing 1: 1=1,66000, 10=1,50000, 100=1,39000, 250=1,34000, 500=1,28000, 1000=1,17000 (EUR); Mount: Surface Mount; Contact Plating: Tin; Contact Material: Bronze,Tin; Housing Material: Liquid Crystal Polymer; Min Operating Temperature: -25°C; Max Operating Temperature: 85°C; Number of Rows: 1; Package Quantity: 1; Packaging: Tape and Reel; Termination: Solder; Contact Location: Top; Number of Contacts: 40; Orientation: Straight; Length: 26.5mm; Width: 2.1mm; REACH SVHC: Unknown; Flammability Rating: UL94 V-0; ComponentLink1URL: https://datasheet.ciiva.com/8067/1707020-8067296.pdf?src-supplier=Element14; ComponentLink1Description: https://datasheet.ciiva.com/8067/1707020-8067296.pdf?src-supplier=Element14; ComponentLink2URL: https://datasheet.ciiva.com/25617/0900766b81113bff-25617752.pdf?src-supplier=RSComponents; ComponentLink2Description: https://datasheet.ciiva.com/25617/0900766b81113bff-25617752.pdf?src-supplier=RSComponents; ComponentLink3URL: https://datasheet.ciiva.com/670/6871xx14022-670666.pdf?src-supplier=Digi-Key; ComponentLink3Description: https://datasheet.ciiva.com/670/6871xx14022-670666.pdf?src-supplier=Digi-Key; ComponentLink4URL: https://datasheet.ciiva.com/670/6871xx14022-670667.pdf?src-supplier=Digi-Key; ComponentLink4Description: https://datasheet.ciiva.com/670/6871xx14022-670667.pdf?src-supplier=Digi-Key; ComponentLink5URL: https://datasheet.ciiva.com/670/6871xx14022-670668.pdf?src-supplier=Digi-Key; ComponentLink5Description: https://datasheet.ciiva.com/670/6871xx14022-670668.pdf?src-supplier=Digi-Key; ComponentLink6URL: https://datasheet.ciiva.com/14153/6871xx14022-eng-datasheet-14153919.pdf?src-supplier=Distrelec; ComponentLink6Description: https://datasheet.ciiva.com/14153/6871xx14022-eng-datasheet-14153919.pdf?src-supplier=Distrelec; Supplier Part Number 1: 1908476
footprint CON_40p_68714014022 (ZIF Connectors, Horizontal, Top Contact, pitch 0.5mm, 40p)
pins: 1, 2, 3, 4, 5, 6, 7, 8, 9, 10, 11, 12, 13, 14, 15, 16, 17, 18, 19, 20, 21, 22, 23, 24, 25, 26, 27, 28, 29, 30, 31, 32, 33, 34, 35, 36, 37, 38, 39, 40, MP1, MP2
text: Mech-Pad

## CON_150309
designator X?, comment 150309
LUMBERG         1503 09            Phone Audio Connector, Jack, 3.5 mm, 3 Contacts, PCB Mount, Plastic Body, Silver Plated Contacts; Number of Terminals/Pins: 3; Current Rating: 1A; Connector Type: Socket; Max Voltage Rating (AC): 34V; Gender: Female; Number of Ports: 1; Insulation Resistance: 100MR; Pin Diameter: 3.5mm; Supplier 1: Farnell; Manufacturer: Lumberg; Manufacturer Part Number: 150309; RoHS: Yes; Category: Uncategorized; Stock 1: 534; Pricing 1: 1=2,52000, 10=1,79000, 100=1,49000, 250=1,32000, 500=1,28000, 1000=1,26000 (EUR); Number of Pins: 3; Color: Black; Contact Material: Brass,NICKEL PLATED; Contact Plating: Silver; Housing Material: Polyphenylene; Body Material: Plastic; Min Operating Temperature: -20°C; Max Operating Temperature: 70°C; Packaging: Tape and Reel; Termination: Solder; Max Current Rating: 1A; Max Voltage Rating (DC): 34V; Number of Contacts: 3; Orientation: Right Angle; Length: 11.5mm; Depth: 17.6mm; RoHS Compliant: Yes; REACH SVHC: No SVHC; ComponentLink1URL: https://datasheet.ciiva.com/23762/41016-23762316.pdf?src-supplier=Newark; ComponentLink1Description: https://datasheet.ciiva.com/23762/41016-23762316.pdf?src-supplier=Newark; ComponentLink2URL: https://datasheet.ciiva.com/18138/getdatasheetpartid-476122-18138830.pdf?src-supplier=Verical; ComponentLink2Description: https://datasheet.ciiva.com/18138/getdatasheetpartid-476122-18138830.pdf?src-supplier=Verical; ComponentLink3URL: https://datasheet.ciiva.com/1085/1697127-1085981.pdf?src-supplier=Element14; ComponentLink3Description: https://datasheet.ciiva.com/1085/1697127-1085981.pdf?src-supplier=Element14; Supplier Part Number 1: 1243244
footprint CON_Lumberg-150309 (Male Header, 10-Leads, Body 20.32x9.144mm, Pitch 2.54mm)
pins: 1, 2, 3, 4, 5

## CON_1935161
designator X?, comment PT 1,5/ 2-5,0-H - 1935161
Conn Terminal Blocks 2 POS 5mm Solder ST Thru-Hole 16A; Manufacturer: Phoenix Contact; Connector Type: Screw; Voltage Rating (DC): 320V; Max Supply Voltage: 250V; Current Rating: 17.5A; Number of Poles: 2; Number of Levels: 1; Current: 18A; Voltage: 300V; Wire Gauge (Max): 26AWG; Wire Gauge (Min): 12AWG; Approvals: UL; Supplier 1: Digi-Key; Manufacturer Part Number: 1935161; RoHS: Yes; Category: Terminal Blocks; Stock 1: 59961; Pricing 1: 1=0,43000, 10=0,41100, 50=0,39280, 100=0,38200, 250=0,35700, 500=0,32844, 1000=0,30350 (USD); Mount: Through Hole; Number of Pins: 2; Weight: 0.067021oz; Contact Material: Copper,Tin; Insulation Material: Nylon; Housing Material: Polyamide; Housing Color: Green; Color: Green; Material: Nylon; Number of Rows: 1; Max Current Rating: 16A; Voltage Rating: 250V; Package Quantity: 250; Packaging: Bulk; Number of Positions: 2; Number of Positions Per Level: 2; Termination: Solder; Number of Contacts: 2; Number of Circuits: 2; Orientation: Straight; Length: 9mm; Height: 11.3mm; Width: 14.9mm; Pitch: 5mm; Depth: 9mm; Wire/Cable Gauge: 26AWG; Radiation Hardening: No; Flammability Rating: UL94 V-0; Lead Free: Lead Free; REACH SVHC: Unknown; ComponentLink1URL: https://datasheet.ciiva.com/15169/getdatasheetpartid-177903-15169663.pdf?src-supplier=Verical; ComponentLink1Description: https://datasheet.ciiva.com/15169/getdatasheetpartid-177903-15169663.pdf?src-supplier=Verical; ComponentLink2URL: https://datasheet.ciiva.com/16047/1935161-16047247.pdf?src-supplier=Onlinecomponents.com; ComponentLink2Description: https://datasheet.ciiva.com/16047/1935161-16047247.pdf?src-supplier=Onlinecomponents.com; ComponentLink3URL: https://datasheet.ciiva.com/824/combiconcompact5-0mmseries-824222.pdf?src-supplier=Digi-Key; ComponentLink3Description: https://datasheet.ciiva.com/824/combiconcompact5-0mmseries-824222.pdf?src-supplier=Digi-Key; Supplier Part Number 1: 277-1667-ND
footprint CON_1935161-THT (PT 1,5/ 2-5,0-H - 1935161 18A/300V)
pins: 1 PWR_IN, 2 GND_IN

## CON_61300821121
designator J?, comment 61300821121
WURTH ELEKTRONIK - 61300821121 - Pin Header, Vertical, Board-to-Board, 2.54 mm, 2 Rows, 8 Contacts, Through Hole Straight; Manufacturer: Wurth Electronics; Number of Positions: 8; Gender: Male; Connector Type: Male Pin; Pitch: 0.1inch; Supplier 1: Farnell; Manufacturer Part Number: 61300821121; RoHS: Yes; Category: Connectors; Stock 1: 1233; Pricing 1: 10=0,35300, 100=0,32300, 250=0,32200, 500=0,32100, 1000=0,32000, 2500=0,31400 (EUR); Mount: Through Hole; Contact Plating: Gold; Contact Material: Copper; Color: Black; Number of Rows: 2; Packaging: Bulk; Termination: Solder; Number of Contacts: 8; Row Spacing: 0.1inch; Contact Mating Length: 0.236inch; REACH SVHC: Unknown; Lead Free: Lead Free; ComponentLink1URL: https://datasheet.ciiva.com/28505/1442180-28505510.pdf?src-supplier=Element14; ComponentLink1Description: https://datasheet.ciiva.com/28505/1442180-28505510.pdf?src-supplier=Element14; Supplier Part Number 1: 2356133
footprint CON_61300821121 (Pin Header, pitch 2.54 mm, THT, Vertical, dual row, 8p)
pins: 1, 2, 3, 4, 5, 6, 7, 8

## CON_61301028521
designator X?, comment 6130(10)28521
Pin Header 61306428521 wird auf 2x5 Pins verkürzt ggf. so lieferbar?
footprint PinHeader-10pol-2,54mm-dual
pins: 1, 2, 3, 4, 5, 6, 7, 8, 9, 10

## CON_615016240521
designator X?, comment 615016240521
Modular Jack WR-MJ, Tab Up & Down, Shielded, Dual Stacked Port with EMI Panel Finger, Horizontal Entry, THT, 8P8C; Manufacturer: Wurth Elektronik; Compliance: Leadfree/RoHS; Withstanding Voltage: 1000VAC; Working Voltage: 120VAC; Port: 2x1; Contact Resistance: 20mOhm; Rated Current: 1.5A; Entrance: Horizontal; Pin Number: 8P8C; Manufacturer URL: http://www.we-online.de; Operating Temperature: -40to85degC; Mounting Technology: THT; Datasheet URL: https://katalog.we-online.de/em/datasheet/615016240521.pdf; Packaging: Tray; Package Reference: 615016240521; Publisher: WurthElektronik; Part Number: 615016240521
footprint CON_CAN_615016240521 (Modular Jack Horizontal Shielded Dual Stacked with EMI Panel Finger 8P8C Tab Up&Down)
part A pins: A1, A2, A3, A4, A5, A6, A7, A8, S1, S2, S3, S4, S5, S6
part B pins: B1, B2, B3, B4, B5, B6, B7, B8

## CON_696103201002
designator X?, comment 696103201002
FUSEHOLDER BLOCKS - PCB - CLIP C; Manufacturer: Wurth Electronics; Number of Circuits: 1; Voltage: 250V; Current Rating: 20A; Supplier 1: Mouser; Manufacturer Part Number: 696103201002; RoHS: No; Category: Fuse Holders; Stock 1: 643; Mount: Surface Mount; Contact Material: Copper Alloy; Contact Plating: Tin; Orientation: Horizontal; Termination: Through Hole; ComponentLink1URL: https://katalog.we-online.de/em/datasheet/696103201002.pdf?src-supplier=Digi-Key; ComponentLink1Description: https://katalog.we-online.de/em/datasheet/696103201002.pdf?src-supplier=Digi-Key; Supplier Part Number 1: 710-696103201002
footprint CON_Fuseholder
pins: 1, 2

## CON_Cinch_Brüklin-60F132
designator X?, comment 60F132
JST (JAPAN SOLDERLESS TERMINALS) - B4B-XH-A (LF)(SN) - Wire-To-Board-Steckverbinder, vertikal, 2.5 mm, 4 Kontakt(e), Stiftleiste, Baureihe XH; Connector Type: Male Pin; Number of Positions: 4; Gender: Male; Contact Resistance: 20mR; Current Rating: 3A; Max Voltage Rating (AC): 250V; Insulation Resistance: 1GR; Pitch: 2.5mm; Wire/Cable Gauge: 22AWG; Supplier 1: Newark; Manufacturer: JST; Manufacturer Part Number: B4B-XH-A(LF)(SN); RoHS: Yes; Category: FFC / FPC; Mount: Through Hole; Contact Plating: Tin,Copper,Lead; Contact Material: Brass; Color: Natural; Housing Material: Polyamide; Housing Color: White; Material: Polyamide; Min Operating Temperature: -25°C; Max Operating Temperature: 85°C; Number of Rows: 1; Packaging: Bulk; Termination: Press-Fit; Max Current Rating: 3A; Package Quantity: 500; Orientation: Straight; Voltage Rating (AC): 250V; Voltage Rating: 250V; Max Voltage Rating (DC): 250V; Number of Contacts: 4; Length: 12.4mm; Depth: 5.75mm; Lead Pitch: 2.5mm; Lead Free: Lead Free; REACH SVHC: No SVHC; ComponentLink1URL: https://datasheet.ciiva.com/26894/getdatasheetpartid-455616-26894787.pdf?src-supplier=Verical; ComponentLink1Description: https://datasheet.ciiva.com/26894/getdatasheetpartid-455616-26894787.pdf?src-supplier=Verical; ComponentLink2URL: https://datasheet.ciiva.com/26924/getdatasheetpartid-640571-26924035.pdf?src-supplier=Verical; ComponentLink2Description: https://datasheet.ciiva.com/26924/getdatasheetpartid-640571-26924035.pdf?src-supplier=Verical; ComponentLink3URL: https://datasheet.ciiva.com/16203/b4b-xh-alfsn-16203642.pdf?src-supplier=Future+Electronics; ComponentLink3Description: https://datasheet.ciiva.com/16203/b4b-xh-alfsn-16203642.pdf?src-supplier=Future+Electronics; ComponentLink4URL: https://datasheet.ciiva.com/726/exh-726404.pdf?src-supplier=Digi-Key; ComponentLink4Description: https://datasheet.ciiva.com/726/exh-726404.pdf?src-supplier=Digi-Key; Supplier Part Number 1: 73M9436
footprint CON_Cinch-Buchse
pins: 1, 2, 3, 4
text: Cinch Buchse; Shield

## CON_J_61300211121
designator J?, comment 61300211121
WURTH ELEKTRONIK - 61300211121 - Pin Header, Vertical, Board-to-Board, 2.54 mm, 1 Rows, 2 Contacts, Through Hole Straight; Manufacturer: Wurth Electronics; Current Rating: 3A; Voltage Rating: 250V; Number of Positions: 2; Gender: Male; Connector Type: Male Pin; Pitch: 0.1inch; Supplier 1: Farnell; Manufacturer Part Number: 61300211121; RoHS: Yes; Category: Headers and Wire Housings; Stock 1: 10705; Pricing 1: 100=0,05670, 500=0,05560, 1000=0,05440, 2500=0,05330, 5000=0,05220, 10000=0,05100 (EUR); Mount: Through Hole; Contact Plating: Gold; Housing Material: PBT; Contact Material: Copper Alloy,Copper; Color: Black; Min Operating Temperature: -40°C; Max Operating Temperature: 125°C; Number of Rows: 1; Contact Gender: Male; Packaging: Bulk; Termination: Through Hole; Number of Contacts: 2; Contact Mating Length: 0.236inch; REACH SVHC: Unknown; Lead Free: Lead Free; ComponentLink1URL: https://datasheet.ciiva.com/13619/6130xx11121-48870-13619345.pdf?src-supplier=Mouser; ComponentLink1Description: https://datasheet.ciiva.com/13619/6130xx11121-48870-13619345.pdf?src-supplier=Mouser; Supplier Part Number 1: 2356153
footprint CON-61300211121_Jumper-2p (Header, 2-Leads, Body 5.08x2.54mm, Pitch 2.54mm)
pins: 1, 2

## CON_KRE02
designator X?, comment KRE02
LUMBERG - KRE 02 - Morsettiera di collegamento Filo-Scheda, 5 mm, 2 Vie, 4 mm², Vite; Number of Contacts: 2; Max Current Rating: 15A; Max Supply Voltage (AC): 250V; Supplier 1: Farnell; Manufacturer: Lumberg; Manufacturer Part Number: KRE02; RoHS: Yes; Category: Terminal Blocks; Stock 1: 1024; Pricing 1: 1=0,86200, 50=0,83800, 100=0,78500, 250=0,73400, 500=0,68800, 1000=0,64700 (EUR); Contact Plating: Zinc; Housing Material: Polyamide; Contact Material: Brass,Steel; Min Operating Temperature: -25°C; Max Operating Temperature: 100°C; Packaging: Bulk; Termination: Solder; Number of Rows: 1; Current Rating: 15A; Voltage Rating: 250V; Orientation: Straight; Max Voltage Rating (AC): 250V; Length: 10mm; Depth: 10mm; Radiation Hardening: No; REACH SVHC: No SVHC; ComponentLink1URL: http://components.arrow.com/part/dataview/0323_01040152?src-supplier=Arrow+Europe; ComponentLink1Description: http://components.arrow.com/part/dataview/0323_01040152?src-supplier=Arrow+Europe; ComponentLink2URL: http://www.farnell.com/datasheets/2343572.pdf?src-supplier=Farnell; ComponentLink2Description: http://www.farnell.com/datasheets/2343572.pdf?src-supplier=Farnell; ComponentLink3URL: https://www.verical.com/server-webapp/html/getDatasheet?partID=387255&src-supplier=Verical; ComponentLink3Description: https://www.verical.com/server-webapp/html/getDatasheet?partID=387255&src-supplier=Verical; ComponentLink4URL: http://www.farnell.com/datasheets/2343572.pdf?src-supplier=Element14; ComponentLink4Description: http://www.farnell.com/datasheets/2343572.pdf?src-supplier=Element14; Supplier Part Number 1: 1216974
footprint CON_2p_KRE02-Klemme
pins: 1, 2

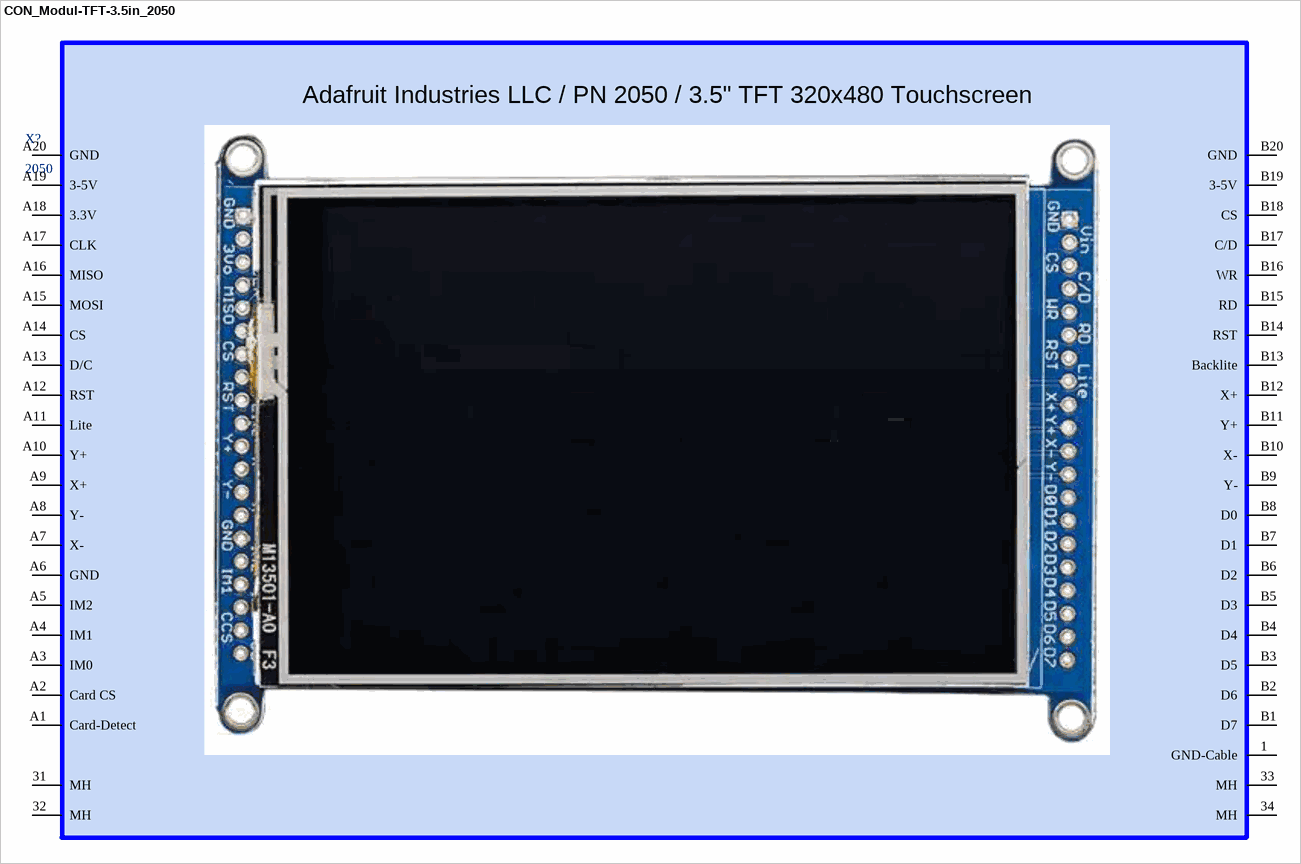
[diagram p4: symbol CON_Modul-TFT-3.5in_2050]

## CON_Modul-TFT-3.5in_2050
designator X?, comment 2050
3.5" TFT 320X480 TOUCHSCREEN; Manufacturer: Adafruit Industries; Touchscreen: Resistive; Backlight Type: LED; Resolution (height): 480pixel; Resolution (width): 320pixel; Interface: Serial,Parallel; Diagonal Size: 3.5inch; Supplier 1: Mouser; Manufacturer Part Number: 2050; RoHS: Yes; Category: LCD, OLED, Graphic Displays; Stock 1: 417; ComponentLink1URL: http://www.alliedelec.com/m/d/9756519adc26e8471e8a5fa3971ddbc7.pdf?src-supplier=Allied+Electronics; ComponentLink1Description: http://www.alliedelec.com/m/d/9756519adc26e8471e8a5fa3971ddbc7.pdf?src-supplier=Allied+Electronics; ComponentLink2URL: https://cdn-shop.adafruit.com/datasheets/HX8357-D_DS_April2012.pdf?src-supplier=Digi-Key; ComponentLink2Description: https://cdn-shop.adafruit.com/datasheets/HX8357-D_DS_April2012.pdf?src-supplier=Digi-Key; Supplier Part Number 1: 485-2050
footprint CON_Adafruit35-TFT
pins: 1 GND-Cable, 31 MH, 32 MH, 33 MH, 34 MH, A1 Card-Detect, A2 Card CS, A3 IM0, A4 IM1, A5 IM2, A6 GND, A7 X-, A8 Y-, A9 X+, A10 Y+, A11 Lite, A12 RST, A13 D/C, A14 CS, A15 MOSI, A16 MISO, A17 CLK, A18 3.3V, A19 3-5V, A20 GND, B1 D7, B2 D6, B3 D5, B4 D4, B5 D3, B6 D2, B7 D1, B8 D0, B9 Y-, B10 X-, B11 Y+, B12 X+, B13 Backlite, B14 RST, B15 RD, B16 WR, B17 C/D, B18 CS, B19 3-5V, B20 GND
text: Adafruit Industries LLC / PN 2050 / 3.5" TFT 320x480 Touchscreen

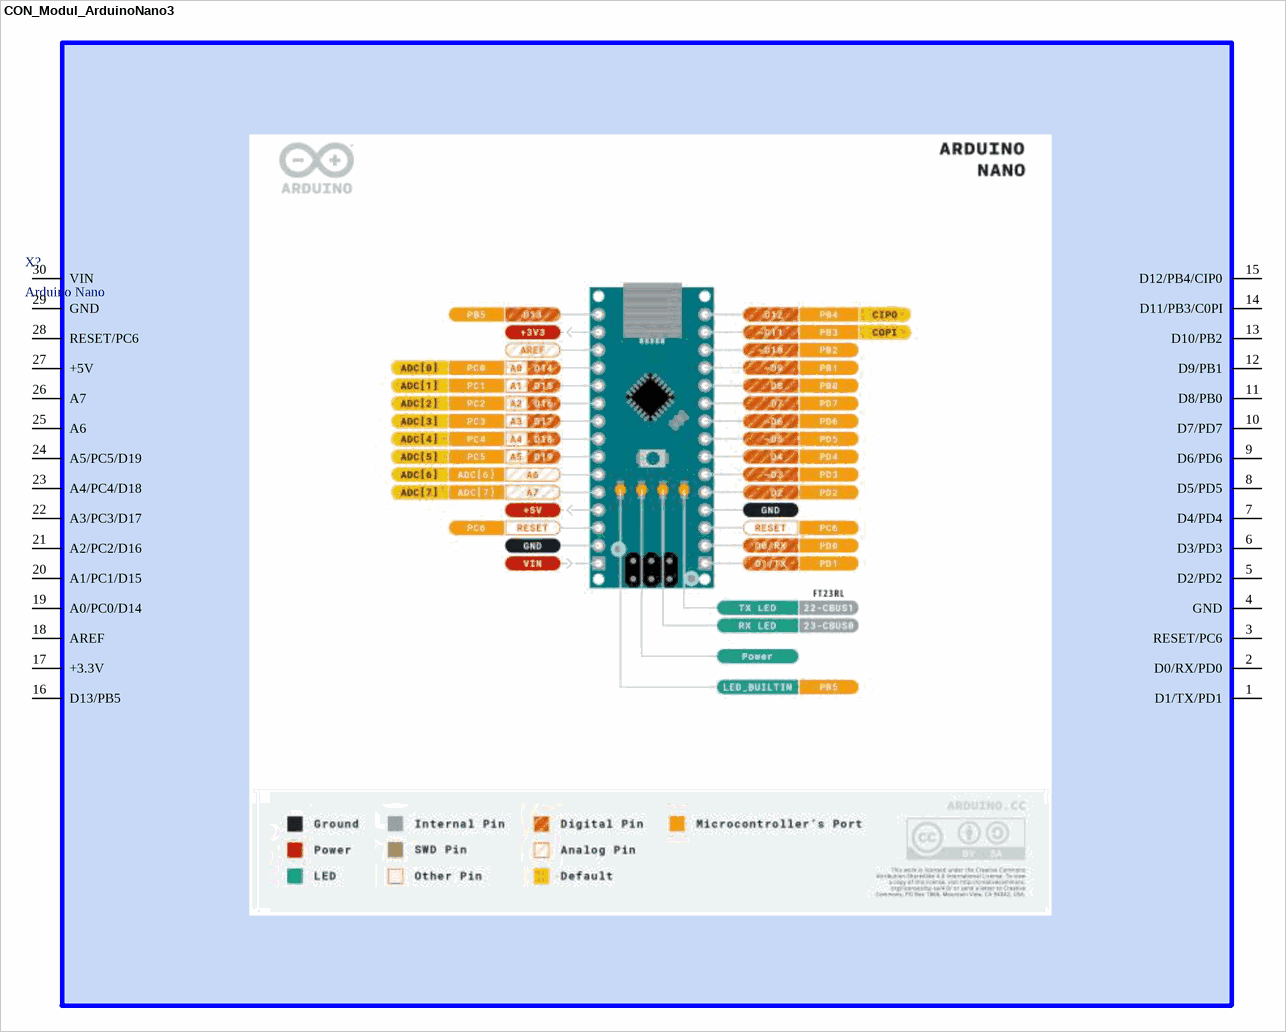
[diagram p5: symbol CON_Modul_ArduinoNano3]

## CON_Modul_ArduinoNano3
designator X?, comment Arduino Nano
ATmega328 Microcontroller Development Board 16MHz CPU 2KB RAM 1KB/32KB EEPROM/Flash; Manufacturer Part Number: A000005; Operating Supply Voltage: 12V; Evaluation Kit: Yes; Interface: I2C,SPI,USB; Core Architecture: AVR; Number of Bits: 8; Data Bus Width: 8b; Supplier 1: Farnell; Manufacturer: Arduino; RoHS: Yes; Category: Embedded Processors and Controllers; Stock 1: 251; Pricing 1: 1=21,19000 (EUR); Weight: 0.358383oz; Package Quantity: 50; Packaging: Bulk; Series: AVR® ATmega; Length: 7inch; Width: 5inch; Height: 0.25inch; Reach SVHC Compliant: Yes; ComponentLink1URL: https://datasheet.ciiva.com/2398/arduinonanomanual23-2398236.pdf?src-supplier=Digi-Key; ComponentLink1Description: https://datasheet.ciiva.com/2398/arduinonanomanual23-2398236.pdf?src-supplier=Digi-Key; ComponentLink2URL: https://datasheet.ciiva.com/19455/2121148-19455443.pdf?src-supplier=Jameco; ComponentLink2Description: https://datasheet.ciiva.com/19455/2121148-19455443.pdf?src-supplier=Jameco; ComponentLink3URL: https://datasheet.ciiva.com/1336/1682238-1336473.pdf?src-supplier=Element14; ComponentLink3Description: https://datasheet.ciiva.com/1336/1682238-1336473.pdf?src-supplier=Element14; ComponentLink4URL: https://datasheet.ciiva.com/1414/810078-1414124.pdf?src-supplier=Newark; ComponentLink4Description: https://datasheet.ciiva.com/1414/810078-1414124.pdf?src-supplier=Newark; ComponentLink5URL: https://datasheet.ciiva.com/4926/arduino-arduinoboardnano-188748-4926316.pdf?src-supplier=Mouser; ComponentLink5Description: https://datasheet.ciiva.com/4926/arduino-arduinoboardnano-188748-4926316.pdf?src-supplier=Mouser; Supplier Part Number 1: 1848691
footprint Arduino-Nano-Connectors
pins: 1 D1/TX/PD1, 2 D0/RX/PD0, 3 RESET/PC6, 4 GND, 5 D2/PD2, 6 D3/PD3, 7 D4/PD4, 8 D5/PD5, 9 D6/PD6, 10 D7/PD7, 11 D8/PB0, 12 D9/PB1, 13 D10/PB2, 14 D11/PB3/C0PI, 15 D12/PB4/CIP0, 16 D13/PB5, 17 +3.3V, 18 AREF, 19 A0/PC0/D14, 20 A1/PC1/D15, 21 A2/PC2/D16, 22 A3/PC3/D17, 23 A4/PC4/D18, 24 A5/PC5/D19, 25 A6, 26 A7, 27 +5V, 28 RESET/PC6, 29 GND, 30 VIN

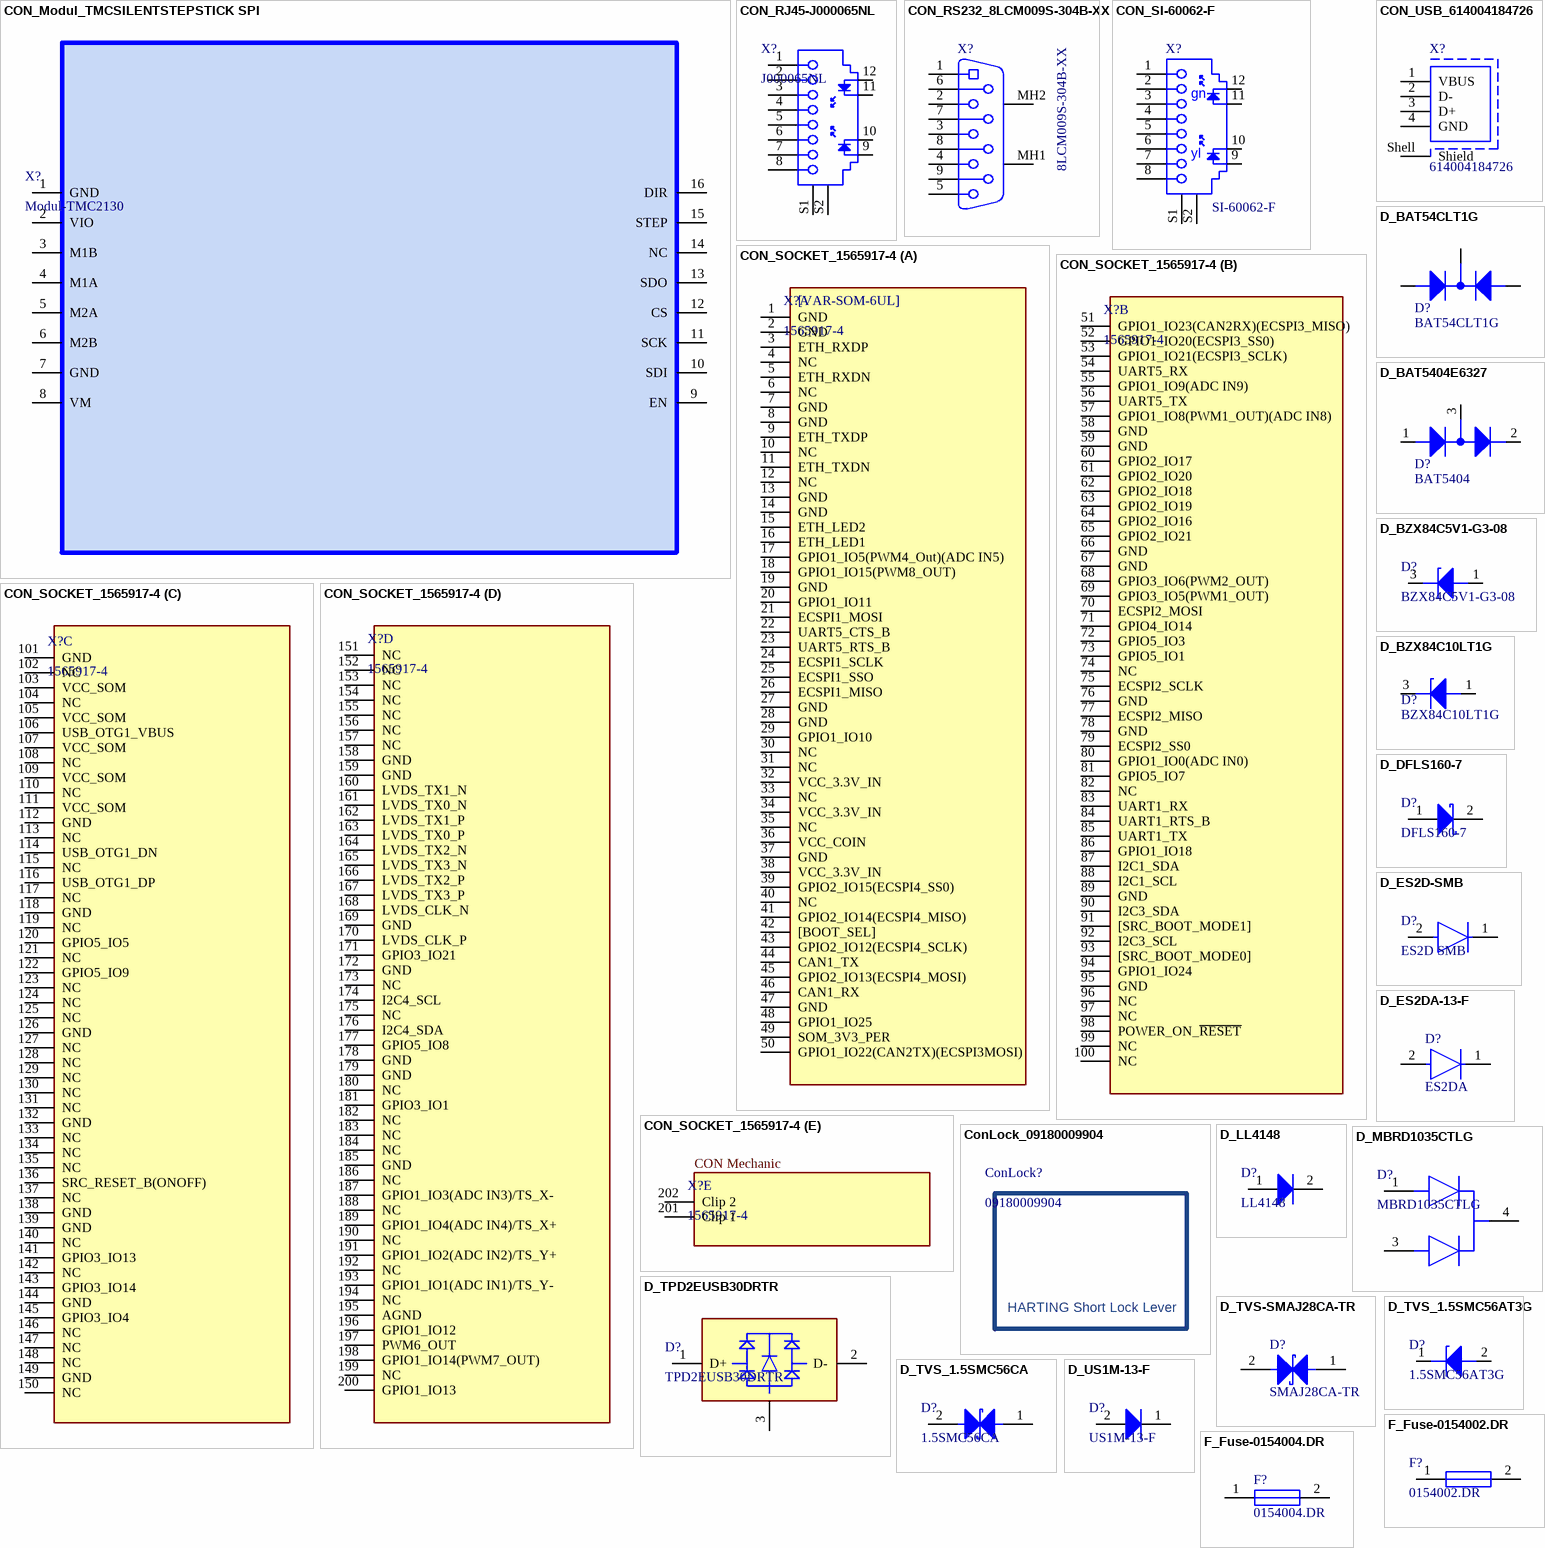
[diagram p6: symbols CON_Modul_TMCSILENTSTEPSTICK SPI to F_Fuse-0154004.DR]